# EAGLE library part 17P (library con-dg55)
DEGSON DG55 CONNECTOR
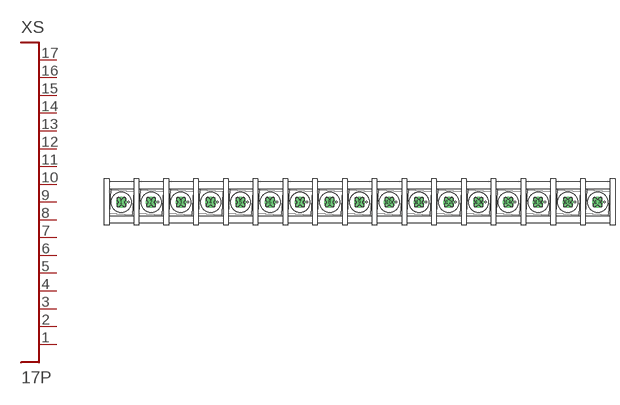
[diagram p11: symbol with the pads of DG55CB-17P-1; footprint DG55CB-17P-1]

Designator prefix XS

## 17P  [DG55CB-17P-1]
1  P$1
2  P$2
3  P$3
4  P$4
5  P$5
6  P$6
7  P$7
8  P$8
9  P$9
10  P$10
11  P$11
12  P$12
13  P$13
14  P$14
15  P$15
16  P$16
17  P$17

## Footprint DG55CB-17P-1 (pad centres in mm)
DG55
drill 1.8 pad 3.6: 1 -80,0; 2 -70,0; 3 -60,0; 4 -50,0; 5 -40,0; 6 -30,0; 7 -20,0; 8 -10,0; 9 0,0; 10 10,0; 11 20,0; 12 30,0; 13 40,0; 14 50,0; 15 60,0; 16 70,0; 17 80,0